# Altium footprint library TRANS_BC847BVN-7.PcbLib: 1 footprints
Each footprint in its own frame and in the unit in brackets; x right, y up, seen from the top. Pads: shape width x height; smd on the part's side, far side on the other; paste and mask are expansions set on the pad; w line width, h text height; cw(c..) or ccw(c..) is an arc to the next point about the centre after c.
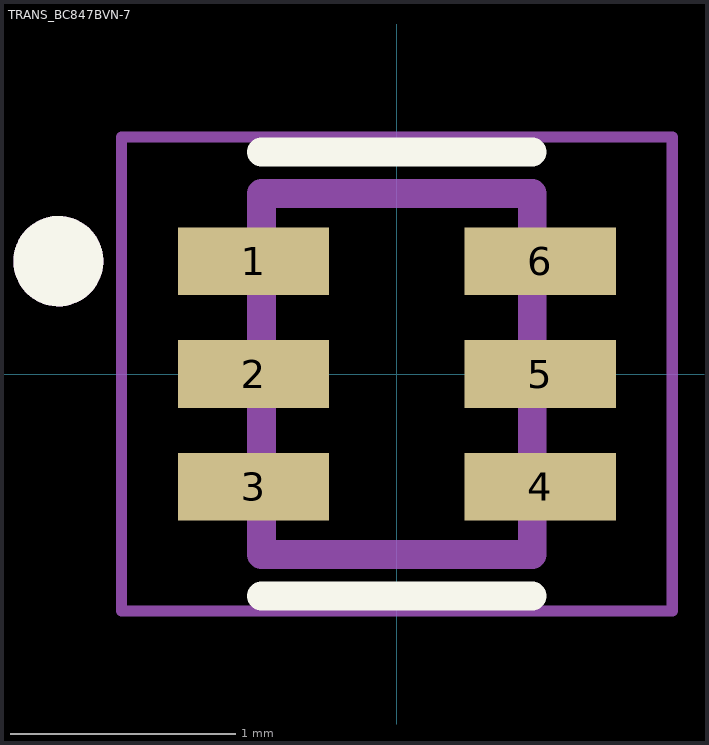
[diagram p0: the footprint, top view; thin cyan lines are the x and y axes]

## TRANS_BC847BVN-7 [mm]
pads (6):
  rect 0.67x0.3 smd: 1(-0.635,0.5) 2(-0.635,0) 3(-0.635,-0.5) 4(0.635,-0.5) 5(0.635,0) 6(0.635,0.5)
Top Overlay:
  circle w0.2: c-1.5,0.5 r0.1
  lines w0.127: -0.6,-0.984 0.6,-0.984 ; -0.6,0.984 0.6,0.984
Mechanical 13:
  circle w0.2: c-1.5,0.5 r0.1
  lines w0.127: -0.6,-0.8 -0.6,0.8 0.6,0.8 0.6,-0.8 -0.6,-0.8
Mechanical 15:
  lines w0.05: -1.22,-1.05 -1.22,1.05 1.22,1.05 1.22,-1.05 -1.22,-1.05